# Altium schematic symbol library SYZYGY_STANDARD.SchLib: 1 symbol
Pins are listed as number, name and electrical type; pins without a type are passive.

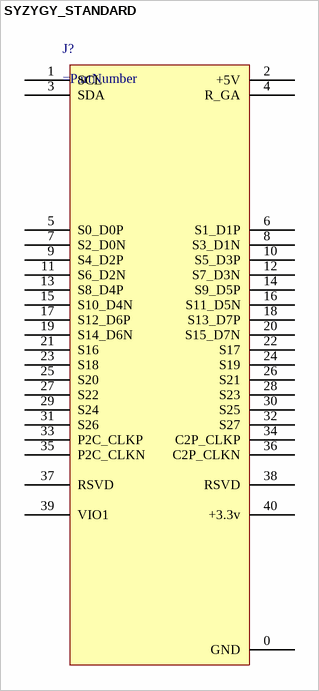
[diagram p0: symbol SYZYGY_STANDARD]

## SYZYGY_STANDARD
designator J?
pins: 0 GND, 1 SCL, 2 +5V, 3 SDA, 4 R_GA, 5 S0_D0P, 6 S1_D1P, 7 S2_D0N, 8 S3_D1N, 9 S4_D2P, 10 S5_D3P, 11 S6_D2N, 12 S7_D3N, 13 S8_D4P, 14 S9_D5P, 15 S10_D4N, 16 S11_D5N, 17 S12_D6P, 18 S13_D7P, 19 S14_D6N, 20 S15_D7N, 21 S16, 22 S17, 23 S18, 24 S19, 25 S20, 26 S21, 27 S22, 28 S23, 29 S24, 30 S25, 31 S26, 32 S27, 33 P2C_CLKP, 34 C2P_CLKP, 35 P2C_CLKN, 36 C2P_CLKN, 37 RSVD, 38 RSVD, 39 VIO1, 40 +3.3v